# EAGLE library part MSP430FR2311IPW20 (library companion_board)
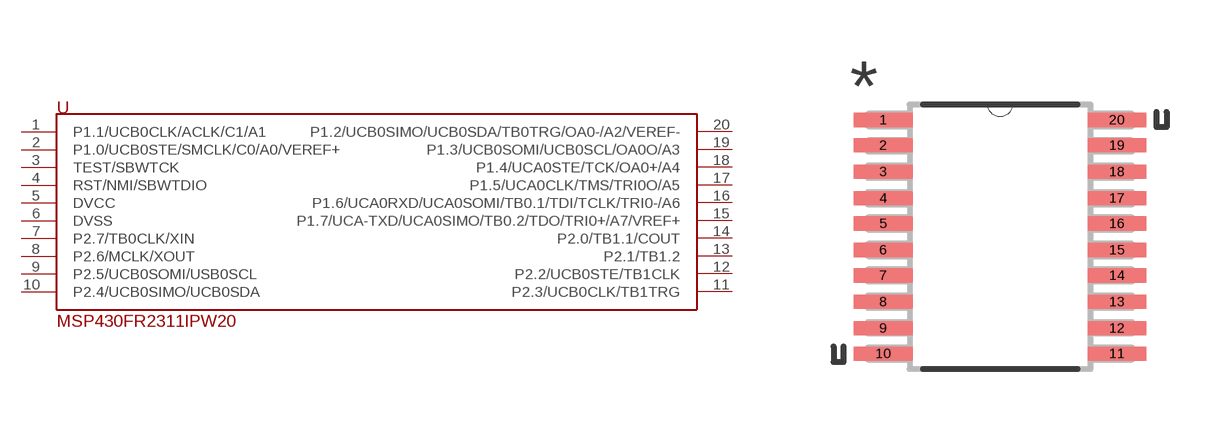
[diagram p1: symbol with the pads of SOP65P640X120-20N; footprint SOP65P640X120-20N]

Designator prefix -

## MSP430FR2311IPW20  [SOP65P640X120-20N]
1  P1.1/UCB0CLK/ACLK/C1/A1
2  P1.0/UCB0STE/SMCLK/C0/A0/VEREF+
3  TEST/SBWTCK
4  RST/NMI/SBWTDIO
5  DVCC
6  DVSS
7  P2.7/TB0CLK/XIN
8  P2.6/MCLK/XOUT
9  P2.5/UCB0SOMI/USB0SCL
10  P2.4/UCB0SIMO/UCB0SDA
11  P2.3/UCB0CLK/TB1TRG
12  P2.2/UCB0STE/TB1CLK
13  P2.1/TB1.2
14  P2.0/TB1.1/COUT
15  P1.7/UCA-TXD/UCA0SIMO/TB0.2/TDO/TRI0+/A7/VREF+
16  P1.6/UCA0RXD/UCA0SOMI/TB0.1/TDI/TCLK/TRI0-/A6
17  P1.5/UCA0CLK/TMS/TRI0O/A5
18  P1.4/UCA0STE/TCK/OA0+/A4
19  P1.3/UCB0SOMI/UCB0SCL/OA0O/A3
20  P1.2/UCB0SIMO/UCB0SDA/TB0TRG/OA0-/A2/VEREF-

## Footprint SOP65P640X120-20N (pad centres in mm)
smd 1.473 x 0.356: 1 -2.921,2.921; 2 -2.921,2.286; 3 -2.921,1.626; 4 -2.921,0.965; 5 -2.921,0.33; 6 -2.921,-0.33; 7 -2.921,-0.965; 8 -2.921,-1.626; 9 -2.921,-2.286; 10 -2.921,-2.921; 11 2.921,-2.921; 12 2.921,-2.286; 13 2.921,-1.626; 14 2.921,-0.965; 15 2.921,-0.33; 16 2.921,0.33; 17 2.921,0.965; 18 2.921,1.626; 19 2.921,2.286; 20 2.921,2.921